# Altium footprint library SJ335083CTR.PcbLib: 1 footprints
Each footprint in its own frame and in the unit in brackets; x right, y up, seen from the top. Pads: shape width x height; smd on the part's side, far side on the other; paste and mask are expansions set on the pad; w line width, h text height; cw(c..) or ccw(c..) is an arc to the next point about the centre after c.
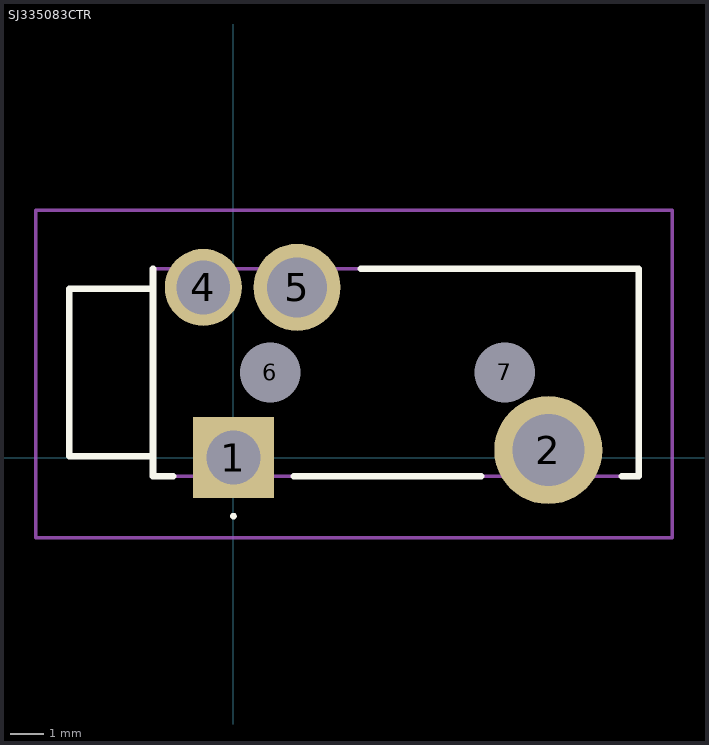
[diagram p0: the footprint, top view; thin cyan lines are the x and y axes]

## SJ335083CTR [mm]
pads (6):
  rect 2.415x2.415 hole 1.61: 1(0,0)
  round 3.225 hole 2.15: 2(9.4,0.22)
  round 2.3 hole 1.61: 4(-0.9,5.08)
  round 2.6 hole 1.79: 5(1.9,5.08)
  round 0.9 hole 1.8 unplated: 6(1.1,2.54) 7(8.1,2.54)
Top Overlay:
  lines w0.1: 0,-1.8 cw(c0,-1.75) 0,-1.7 ; 0,-1.8 0,-1.8 ; 0,-1.8 ccw(c0,-1.75) 0,-1.7 ; 0,-1.7 0,-1.7
  lines w0.2: -2.4,0.04 -4.9,0.04 -4.9,5.04 -2.4,5.04 ; -2.4,5.64 -2.4,-0.56 -1.8,-0.56 ; 1.8,-0.56 7.4,-0.56 ; 3.8,5.64 12.1,5.64 12.1,-0.56 11.6,-0.56
Mechanical 15:
  lines w0.1: -2.4,0.04 -4.9,0.04 -4.9,5.04 -2.4,5.04 ; -2.4,-0.56 12.1,-0.56 12.1,5.64 -2.4,5.64 -2.4,-0.56
Mechanical 20:
  lines w0.1: -5.9,-2.393 13.1,-2.393 13.1,7.38 -5.9,7.38 -5.9,-2.393